# Altium footprint library Diag-Board1.PcbLib: 13 footprints
Each footprint in its own frame and in the unit in brackets; x right, y up, seen from the top. Pads: shape width x height; smd on the part's side, far side on the other; paste and mask are expansions set on the pad; w line width, h text height; cw(c..) or ccw(c..) is an arc to the next point about the centre after c.
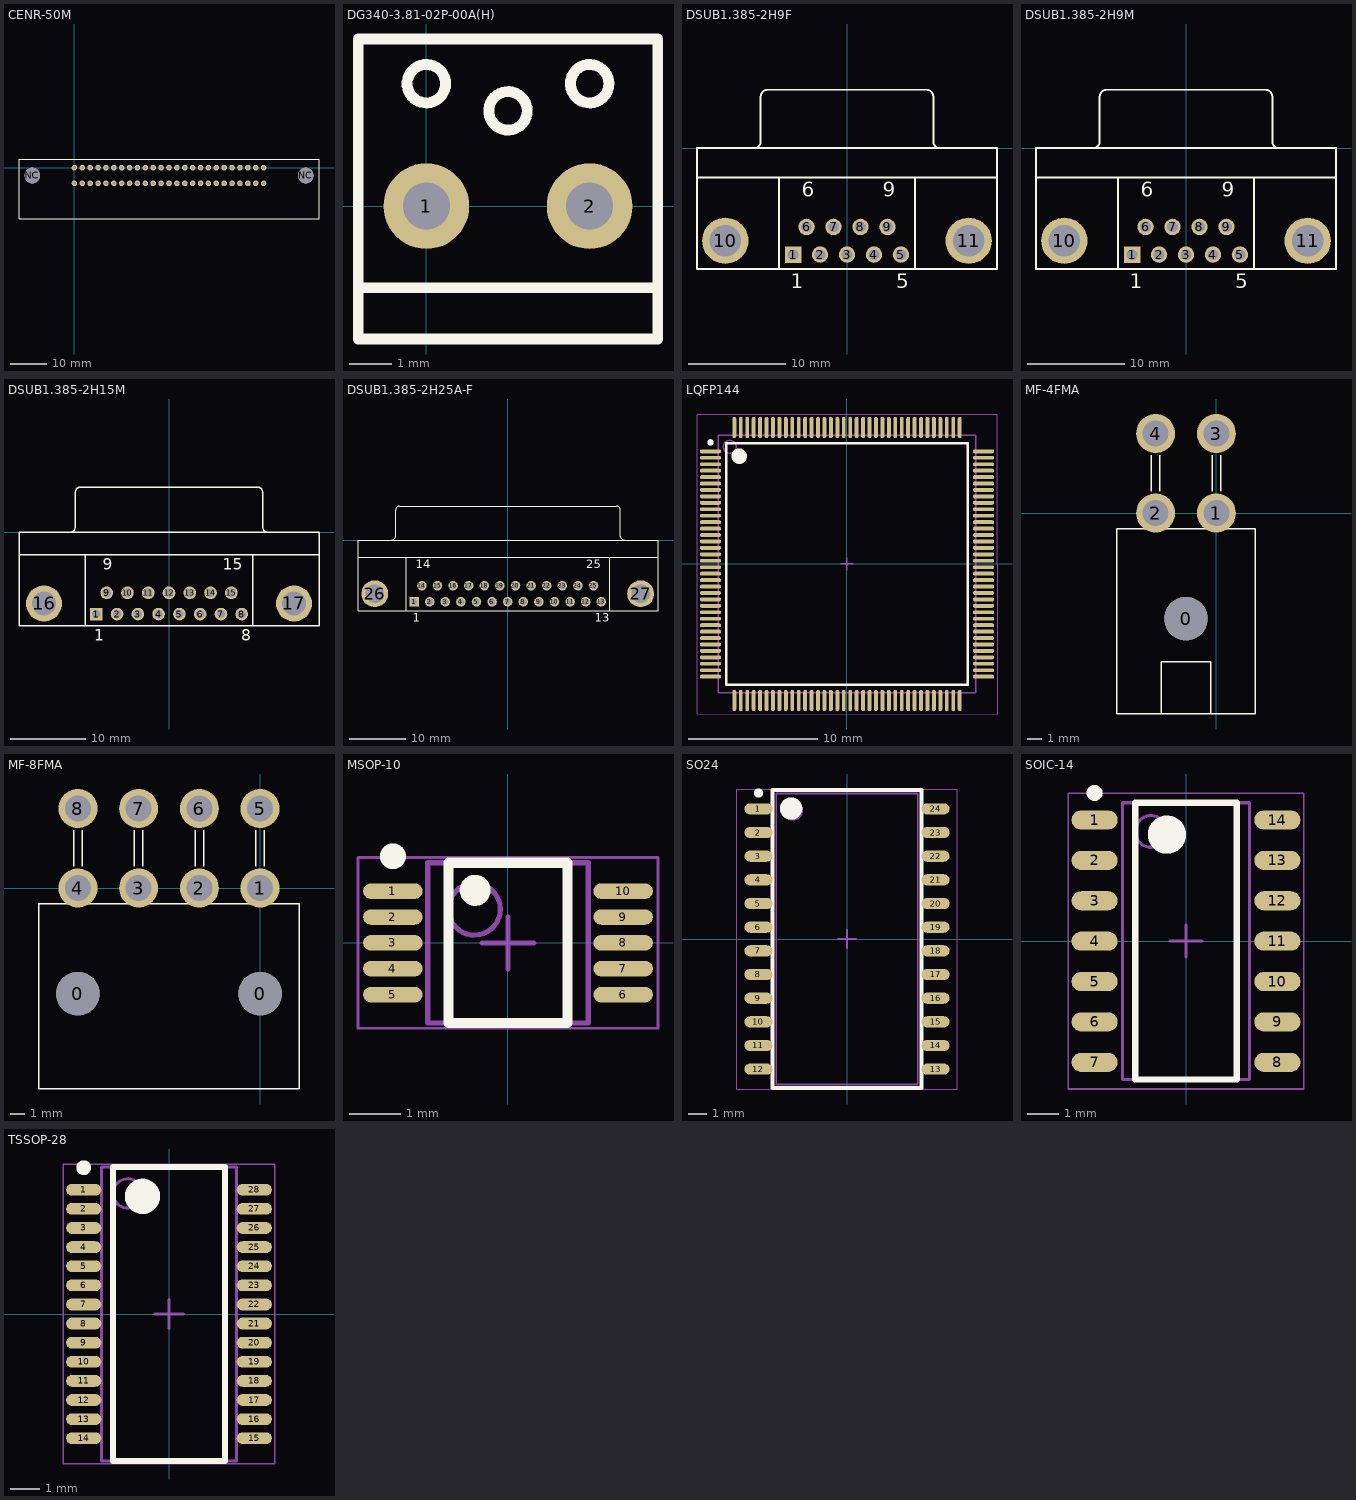
[diagram p0: the footprints below, top view; thin cyan lines are the x and y axes]

## CENR-50M [mil]
pads (52):
  round 60 hole 30: 1(0,0) 2(85.04,0) 3(170.08,0) 4(255.12,0) 5(340.16,0) 6(425.2,0) 7(510.24,0) 8(595.28,0) 9(680.32,0) 10(765.35,0) 11(850.39,0) 12(935.43,0) 13(1020.47,0) 14(1105.51,0) 15(1190.55,0) 16(1275.59,0) 17(1360.63,0) 18(1445.67,0) 19(1530.71,0) 20(1615.75,0) 21(1700.79,0) 22(1785.83,0) 23(1870.87,0) 24(1955.91,0) 25(2040.94,0) 26(0,-168.9) 27(85.04,-168.9) 28(170.08,-168.9) 29(255.12,-168.9) 30(340.16,-168.9) 31(425.2,-168.9) 32(510.24,-168.9) 33(595.28,-168.9) 34(680.32,-168.9) 35(765.35,-168.9) 36(850.39,-168.9) 37(935.43,-168.9) 38(1020.47,-168.9) 39(1105.51,-168.9) 40(1190.55,-168.9) 41(1275.59,-168.9) 42(1360.63,-168.9) 43(1445.67,-168.9) 44(1530.71,-168.9) 45(1615.75,-168.9) 46(1700.79,-168.9) 47(1785.83,-168.9) 48(1870.87,-168.9) 49(1955.91,-168.9) 50(2040.94,-168.9)
  round 168.9 hole 168.9 unplated: NC(-453.94,-84.45) NC(2494.88,-84.45)
Top Overlay:
  lines w5: -597.64,-552.95 2494.88,-552.95 2638.58,-552.95 2638.58,-84.45 2638.58,92.72 2494.88,92.72 -597.64,92.72 -597.64,-552.95
3D body "14267.STEP": height 610.72, standoff -187.18, extent -720.31,-1547.87 2761.25,90.35

## DG340-3.81-02P-00A(H) [mm]
pads (2):
  round 2 hole 1.1: 1(0,0) 2(3.81,0)
Top Overlay:
  circle w0.254: c3.81,2.857 r0.449
  circle w0.254: c1.905,2.222 r0.449
  circle w0.254: c0,2.857 r0.449
  lines w0.25: -1.587,-1.905 5.397,-1.905 ; -1.587,-3.1 -1.587,3.9 5.397,3.9 5.397,-3.1 -1.587,-3.1
3D body "KLS2-340-3_81-2.STEP": height 8.4, standoff -3.27, extent -2.405,-3.5 6.215,3.5

## DSUB1.385-2H9F [mm]
pads (11):
  rect 1.69x1.69 hole 1.09: 1(-5.54,-10.92)
  round 1.69 hole 1.09: 2(-2.77,-10.92) 3(0,-10.92) 4(2.77,-10.92) 5(5.54,-10.92) 6(-4.155,-8.08) 7(-1.385,-8.08) 8(1.385,-8.08) 9(4.155,-8.08)
  round 4.76 hole 3.26: 10(-12.495,-9.5) 11(12.495,-9.5)
Top Overlay:
  lines w0.2: -15.4,-3 15.4,-3 ; -9.56,0.005 ccw(c-9.56,0.7) -8.865,0.7 -8.865,5.3 ; -8.86,5.305 cw(c-8.165,5.305) -8.165,6 8.165,6 cw(c8.165,5.305) 8.86,5.305 ; -7,-12.4 -7,-3 ; 7,-12.4 7,-3 ; 8.865,5.3 8.865,0.7 ccw(c9.56,0.7) 9.56,0.005 ; -15.4,-12.4 15.4,-12.4 15.4,0 -15.4,0 -15.4,-12.4
  text "6" at -4.655,-4.975 h1.5
  text "9" at 3.655,-4.975 h1.5
  text "5" at 5.04,-14.375 h1.5
  text "1" at -5.79,-14.375 h1.5
3D body "DB9-Usa.STEP": height 12.56, standoff -4.31, extent -15.405,-12.5 15.405,5.8

## DSUB1.385-2H9M [mm]
pads (11):
  rect 1.69x1.69 hole 1.09: 1(-5.54,-10.92)
  round 1.69 hole 1.09: 2(-2.77,-10.92) 3(0,-10.92) 4(2.77,-10.92) 5(5.54,-10.92) 6(-4.155,-8.08) 7(-1.385,-8.08) 8(1.385,-8.08) 9(4.155,-8.08)
  round 4.76 hole 3.26: 10(-12.495,-9.5) 11(12.495,-9.5)
Top Overlay:
  lines w0.2: -15.4,-3 15.4,-3 ; -9.56,0.005 ccw(c-9.56,0.7) -8.865,0.7 -8.865,5.3 ; -8.86,5.305 cw(c-8.165,5.305) -8.165,6 8.165,6 cw(c8.165,5.305) 8.86,5.305 ; -7,-12.4 -7,-3 ; 7,-12.4 7,-3 ; 8.865,5.3 8.865,0.7 ccw(c9.56,0.7) 9.56,0.005 ; -15.4,-12.4 15.4,-12.4 15.4,0 -15.4,0 -15.4,-12.4
  text "6" at -4.655,-4.975 h1.5
  text "9" at 3.655,-4.975 h1.5
  text "5" at 5.04,-14.375 h1.5
  text "1" at -5.79,-14.375 h1.5
3D body "DB-9M.STEP": height 12.56, standoff -4.81, extent -15.36,-12.874 15.36,6.3

## DSUB1.385-2H15M [mm]
pads (17):
  rect 1.69x1.69 hole 1.09: 1(-9.695,-10.92)
  round 1.69 hole 1.09: 2(-6.925,-10.92) 3(-4.155,-10.92) 4(-1.385,-10.92) 5(1.385,-10.92) 6(4.155,-10.92) 7(6.925,-10.92) 8(9.695,-10.92) 9(-8.31,-8.08) 10(-5.54,-8.08) 11(-2.77,-8.08) 12(0,-8.08) 13(2.77,-8.08) 14(5.54,-8.08) 15(8.31,-8.08)
  round 4.8 hole 3.18: 16(-16.66,-9.5) 17(16.66,-9.5)
Top Overlay:
  lines w0.2: -20,-3 20,-3 ; -13.195,0.005 ccw(c-13.195,0.7) -12.5,0.7 -12.5,5.3 ; -12.495,5.305 cw(c-11.8,5.305) -11.8,6 11.8,6 cw(c11.8,5.305) 12.495,5.305 ; -11.14,-12.5 -11.14,-3 ; 11.14,-12.5 11.14,-3 ; 12.5,5.3 12.5,0.7 ccw(c13.195,0.7) 13.195,0.005 ; -20,-12.5 20,-12.5 20,0 -20,0 -20,-12.5
  text "9" at -8.81,-4.975 h1.5
  text "15" at 7.185,-4.975 h1.5
  text "8" at 9.652,-14.475 h1.5
  text "1" at -9.945,-14.475 h1.5
3D body "DBPN1M-15.STEP": height 12.55, standoff -4.82, extent -19.515,-13.174 19.515,6

## DSUB1.385-2H25A-F [mm]
pads (27):
  rect 1.69x1.69 hole 1.09: 1(-16.566,-10.92)
  round 1.69 hole 1.09: 2(-13.805,-10.92) 3(-11.044,-10.92) 4(-8.283,-10.92) 5(-5.522,-10.92) 6(-2.761,-10.92) 7(0,-10.92) 8(2.761,-10.92) 9(5.522,-10.92) 10(8.283,-10.92) 11(11.044,-10.92) 12(13.805,-10.92) 13(16.566,-10.92) 14(-15.185,-8.08) 15(-12.424,-8.08) 16(-9.663,-8.08) 17(-6.902,-8.08) 18(-4.141,-8.08) 19(-1.38,-8.08) 20(1.381,-8.08) 21(4.142,-8.08) 22(6.903,-8.08) 23(9.664,-8.08) 24(12.425,-8.08) 25(15.186,-8.08)
  round 4.76 hole 3.26: 26(-23.526,-9.5) 27(23.526,-9.5)
Top Overlay:
  lines w0.2: -26.496,-3 26.604,-3 ; -20.541,0.005 ccw(c-20.541,0.7) -19.846,0.7 -19.846,5.3 ; -19.841,5.305 cw(c-19.146,5.305) -19.146,6 19.254,6 cw(c19.254,5.305) 19.949,5.305 ; -17.946,-12.5 -17.946,-3 ; 18.054,-12.5 18.054,-3 ; 19.954,5.3 19.954,0.7 ccw(c20.649,0.7) 20.649,0.005 ; -26.496,-12.5 26.604,-12.5 26.604,0 -26.496,0 -26.496,-12.5
  text "1" at -16.816,-14.475 h1.5
  text "13" at 15.441,-14.475 h1.5
  text "14" at -16.31,-4.975 h1.5
  text "25" at 13.936,-4.975 h1.5
3D body "DB-25F.STEP": height 12.56, standoff -4.59, extent -26.5,-12.5 26.54,8

## LQFP144 [mm]
pads (144):
  oval 1.65x0.3 smd: 1(-10.6,8.75) 2(-10.6,8.25) 3(-10.6,7.75) 4(-10.6,7.25) 5(-10.6,6.75) 6(-10.6,6.25) 7(-10.6,5.75) 8(-10.6,5.25) 9(-10.6,4.75) 10(-10.6,4.25) 11(-10.6,3.75) 12(-10.6,3.25) 13(-10.6,2.75) 14(-10.6,2.25) 15(-10.6,1.75) 16(-10.6,1.25) 17(-10.6,0.75) 18(-10.6,0.25) 19(-10.6,-0.25) 20(-10.6,-0.75) 21(-10.6,-1.25) 22(-10.6,-1.75) 23(-10.6,-2.25) 24(-10.6,-2.75) 25(-10.6,-3.25) 26(-10.6,-3.75) 27(-10.6,-4.25) 28(-10.6,-4.75) 29(-10.6,-5.25) 30(-10.6,-5.75) 31(-10.6,-6.25) 32(-10.6,-6.75) 33(-10.6,-7.25) 34(-10.6,-7.75) 35(-10.6,-8.25) 36(-10.6,-8.75) 73(10.6,-8.75) 74(10.6,-8.25) 75(10.6,-7.75) 76(10.6,-7.25) 77(10.6,-6.75) 78(10.6,-6.25) 79(10.6,-5.75) 80(10.6,-5.25) 81(10.6,-4.75) 82(10.6,-4.25) 83(10.6,-3.75) 84(10.6,-3.25) 85(10.6,-2.75) 86(10.6,-2.25) 87(10.6,-1.75) 88(10.6,-1.25) 89(10.6,-0.75) 90(10.6,-0.25) 91(10.6,0.25) 92(10.6,0.75) 93(10.6,1.25) 94(10.6,1.75) 95(10.6,2.25) 96(10.6,2.75) 97(10.6,3.25) 98(10.6,3.75) 99(10.6,4.25) 100(10.6,4.75) 101(10.6,5.25) 102(10.6,5.75) 103(10.6,6.25) 104(10.6,6.75) 105(10.6,7.25) 106(10.6,7.75) 107(10.6,8.25) 108(10.6,8.75)
  oval 0.3x1.65 smd: 37(-8.75,-10.6) 38(-8.25,-10.6) 39(-7.75,-10.6) 40(-7.25,-10.6) 41(-6.75,-10.6) 42(-6.25,-10.6) 43(-5.75,-10.6) 44(-5.25,-10.6) 45(-4.75,-10.6) 46(-4.25,-10.6) 47(-3.75,-10.6) 48(-3.25,-10.6) 49(-2.75,-10.6) 50(-2.25,-10.6) 51(-1.75,-10.6) 52(-1.25,-10.6) 53(-0.75,-10.6) 54(-0.25,-10.6) 55(0.25,-10.6) 56(0.75,-10.6) 57(1.25,-10.6) 58(1.75,-10.6) 59(2.25,-10.6) 60(2.75,-10.6) 61(3.25,-10.6) 62(3.75,-10.6) 63(4.25,-10.6) 64(4.75,-10.6) 65(5.25,-10.6) 66(5.75,-10.6) 67(6.25,-10.6) 68(6.75,-10.6) 69(7.25,-10.6) 70(7.75,-10.6) 71(8.25,-10.6) 72(8.75,-10.6) 109(8.75,10.6) 110(8.25,10.6) 111(7.75,10.6) 112(7.25,10.6) 113(6.75,10.6) 114(6.25,10.6) 115(5.75,10.6) 116(5.25,10.6) 117(4.75,10.6) 118(4.25,10.6) 119(3.75,10.6) 120(3.25,10.6) 121(2.75,10.6) 122(2.25,10.6) 123(1.75,10.6) 124(1.25,10.6) 125(0.75,10.6) 126(0.25,10.6) 127(-0.25,10.6) 128(-0.75,10.6) 129(-1.25,10.6) 130(-1.75,10.6) 131(-2.25,10.6) 132(-2.75,10.6) 133(-3.25,10.6) 134(-3.75,10.6) 135(-4.25,10.6) 136(-4.75,10.6) 137(-5.25,10.6) 138(-5.75,10.6) 139(-6.25,10.6) 140(-6.75,10.6) 141(-7.25,10.6) 142(-7.75,10.6) 143(-8.25,10.6) 144(-8.75,10.6)
Top Overlay:
  circle w0.25: c-10.6,9.45 r0.125
  circle w0.6: c-8.375,8.375 r0.3
  lines w0.2: -9.375,-9.375 -9.375,9.375 9.375,9.375 9.375,-9.375 -9.375,-9.375
Mechanical 13:
  circle w0.1: c-9.1,9.1 r0.5
  lines w0.1: -10,-10 -10,10 10,10 10,-10 -10,-10
Mechanical 15:
  lines w0.05: -11.65,-11.65 -11.65,11.65 11.65,11.65 11.65,-11.65 -11.65,-11.65
  lines w0.1: -0.5,0 0.5,0 ; 0,-0.5 0,0.5
3D body "LQFP144.step": height 1.6, standoff 0, extent -11.075,-11.075 11.075,11.075

## MF-4FMA [mm] "Molex Power Socket Header 2x2pin Right Angle"
pads (5):
  round 3 hole 3 unplated: 0(-2.1,-7.3)
  round 2.7 hole 1.8: 1(0,0) 2(-4.2,0) 3(0,5.5) 4(-4.2,5.5)
Top Overlay:
  lines w0.1: -4.5,1.5 -4.5,4 ; -3.9,1.5 -3.9,4 ; -3.8,-13.9 -3.8,-10.3 -0.4,-10.3 -0.4,-13.9 ; -0.3,1.5 -0.3,4 ; 0.3,1.5 0.3,4 ; -6.9,-13.9 -2.1,-13.9 2.7,-13.9 2.7,-1.1 -2.1,-1.1 -6.9,-1.1 -6.9,-13.9
3D body "39-30-1042.stp": height 11.4, standoff -3.6, extent -6.9,-13.867 3.1,6.067

## MF-8FMA [mm] "Molex Power Socket Header 2x4pin Right Angle"
pads (10):
  round 3 hole 3 unplated: 0(-12.6,-7.3) 0(0,-7.3)
  round 2.7 hole 1.8: 1(0,0) 2(-4.2,0) 3(-8.4,0) 4(-12.6,0) 5(0,5.5) 6(-4.2,5.5) 7(-8.4,5.5) 8(-12.6,5.5)
Top Overlay:
  lines w0.1: -12.9,1.5 -12.9,4 ; -12.3,1.5 -12.3,4 ; -8.7,1.5 -8.7,4 ; -8.1,1.5 -8.1,4 ; -4.5,1.5 -4.5,4 ; -3.9,1.5 -3.9,4 ; -0.3,1.5 -0.3,4 ; 0.3,1.5 0.3,4 ; -15.3,-13.9 -15.3,-1.1 2.7,-1.1 2.7,-13.9 -4.8,-13.9 -15.3,-13.9
3D body "39-30-0080.stp": height 11.4, standoff -3.6, extent -15.3,-13.867 3.1,6.067

## MSOP-10 [mm] "MSOP-10, 10-Leads, Body 3.00x3.00mm, Pitch 0.50mm, IPC High Density"
height 1.2
pads (10):
  oval 1.15x0.3 smd: 1(-2.225,1) 2(-2.225,0.5) 3(-2.225,0) 4(-2.225,-0.5) 5(-2.225,-1) 6(2.225,-1) 7(2.225,-0.5) 8(2.225,0) 9(2.225,0.5) 10(2.225,1)
Top Overlay:
  circle w0.3: c-0.635,1.016 r0.15
  circle w0.25: c-2.225,1.675 r0.125
  lines w0.2: -1.15,-1.55 -1.15,1.55 1.15,1.55 1.15,-1.55 -1.15,-1.55
Mechanical 13:
  circle w0.1: c-0.65,0.65 r0.5
  lines w0.1: -1.55,-1.55 -1.55,1.55 1.55,1.55 1.55,-1.55 -1.55,-1.55
Mechanical 15:
  lines w0.05: -2.9,-1.65 -2.9,1.65 2.9,1.65 2.9,-1.65 -2.9,-1.65
  lines w0.1: -0.5,0 0.5,0 ; 0,-0.5 0,0.5
3D body "MSOP10.STEP": height 1.09, standoff 0, extent -2.575,-1.6 2.575,1.6

## SO24 [mm]
pads (24):
  oval 1.5x0.6 smd: 1(-4.75,6.985) 2(-4.75,5.715) 3(-4.75,4.445) 4(-4.75,3.175) 5(-4.75,1.905) 6(-4.75,0.635) 7(-4.75,-0.635) 8(-4.75,-1.905) 9(-4.75,-3.175) 10(-4.75,-4.445) 11(-4.75,-5.715) 12(-4.75,-6.985) 13(4.75,-6.985) 14(4.75,-5.715) 15(4.75,-4.445) 16(4.75,-3.175) 17(4.75,-1.905) 18(4.75,-0.635) 19(4.75,0.635) 20(4.75,1.905) 21(4.75,3.175) 22(4.75,4.445) 23(4.75,5.715) 24(4.75,6.985)
Top Overlay:
  circle w0.6: c-3,7 r0.3
  circle w0.25: c-4.75,7.835 r0.125
  lines w0.2: -4,-8 4,-8 4,8 -4,8 -4,-8
Mechanical 13:
  circle w0.1: c-2.9,6.9 r0.5
  lines w0.1: -3.8,-7.8 3.8,-7.8 3.8,7.8 -3.8,7.8 -3.8,-7.8
Mechanical 15:
  lines w0.05: -5.925,-8.05 5.925,-8.05 5.925,8.05 -5.925,8.05 -5.925,-8.05
  lines w0.1: -0.5,0 0.5,0 ; 0,-0.5 0,0.5
3D body "SO24.step": height 2.65, standoff 0, extent -5.162,-7.8 5.162,7.8

## SOIC-14 [mm] "SOIC, 14-Leads, Body 8.61x3.90mm, Pitch 1.27mm, IPC Medium Density"
height 1.75
pads (14):
  oval 1.45x0.6 smd: 1(-2.875,3.81) 2(-2.875,2.54) 3(-2.875,1.27) 4(-2.875,0) 5(-2.875,-1.27) 6(-2.875,-2.54) 7(-2.875,-3.81) 8(2.875,-3.81) 9(2.875,-2.54) 10(2.875,-1.27) 11(2.875,0) 12(2.875,1.27) 13(2.875,2.54) 14(2.875,3.81)
Top Overlay:
  circle w0.6: c-0.6,3.35 r0.3
  circle w0.25: c-2.875,4.66 r0.125
  lines w0.2: -1.6,-4.35 1.6,-4.35 1.6,4.35 -1.6,4.35 -1.6,-4.35
Mechanical 13:
  circle w0.1: c-1.1,3.45 r0.5
  lines w0.1: -2,-4.35 2,-4.35 2,4.35 -2,4.35 -2,-4.35
Mechanical 15:
  lines w0.05: -3.7,-4.65 3.7,-4.65 3.7,4.65 -3.7,4.65 -3.7,-4.65
  lines w0.1: -0.5,0 0.5,0 ; 0,-0.5 0,0.5
3D body "SOIC14.STEP": height 1.75, standoff -0.01, extent -3.1,-4.375 3.1,4.375

## TSSOP-28 [mm] "TSOP, 28-Leads, Body 9.70x4.40mm, Pitch 0.65mm, IPC High Density"
height 1.2
pads (28):
  oval 1.2x0.4 smd: 1(-2.9,4.225) 2(-2.9,3.575) 3(-2.9,2.925) 4(-2.9,2.275) 5(-2.9,1.625) 6(-2.9,0.975) 7(-2.9,0.325) 8(-2.9,-0.325) 9(-2.9,-0.975) 10(-2.9,-1.625) 11(-2.9,-2.275) 12(-2.9,-2.925) 13(-2.9,-3.575) 14(-2.9,-4.225) 15(2.9,-4.225) 16(2.9,-3.575) 17(2.9,-2.925) 18(2.9,-2.275) 19(2.9,-1.625) 20(2.9,-0.975) 21(2.9,-0.325) 22(2.9,0.325) 23(2.9,0.975) 24(2.9,1.625) 25(2.9,2.275) 26(2.9,2.925) 27(2.9,3.575) 28(2.9,4.225)
Top Overlay:
  circle w0.25: c-2.9,4.975 r0.125
  circle w0.6: c-0.9,4 r0.3
  lines w0.2: -1.9,-5 -1.9,5 1.9,5 1.9,-5 -1.9,-5
Mechanical 13:
  circle w0.1: c-1.4,4.1 r0.5
  lines w0.1: -2.3,-5 -2.3,5 2.3,5 2.3,-5 -2.3,-5
Mechanical 15:
  lines w0.05: -3.6,-5.1 -3.6,5.1 3.6,5.1 3.6,-5.1 -3.6,-5.1
  lines w0.1: -0.5,0 0.5,0 ; 0,-0.5 0,0.5
3D body "TSSOP-28.STEP": height 1.2, standoff 0, extent -3.2,-4.85 3.2,4.85